# Altium schematic symbol library my symbol schematics library.SchLib: 13 symbols
Pins are listed as number, name and electrical type; pins without a type are passive.

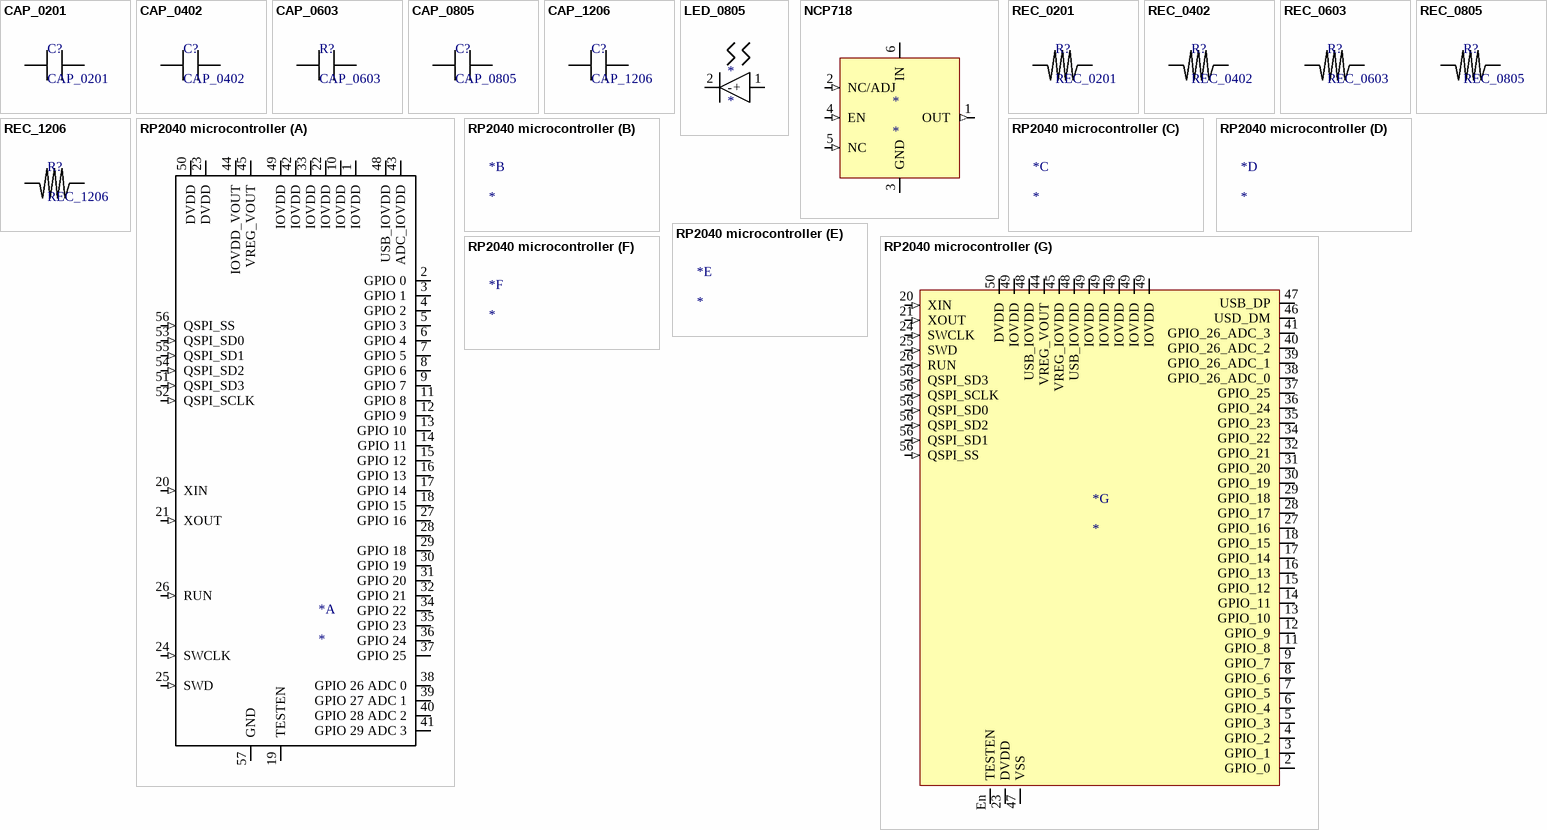
[diagram p0: symbols CAP_0201 to RP2040 microcontroller]

## CAP_0201
designator C?
footprint CAP_0201 (Chip Capacitor, 2-Leads, Body 0,60x0,30mm, IPC Medium Density)
pins: 7, 8

## CAP_0402
designator C?
footprint CAP_0402 (Chip Capacitor, 2-Leads, Body 1,00x0,50mm, IPC Medium Density)
pins: 7, 8

## CAP_0603
designator R?
footprint CAP_0603 (Chip Capacitor, 2-Leads, Body 1,60x0,80mm, IPC Medium Density)
pins: 7, 8

## CAP_0805
designator C?
footprint CAP_0805 (Chip Capacitor, 2-Leads, Body 2,00x1,25mm, IPC Medium Density)
pins: 7, 8

## CAP_1206
designator C?
footprint CAP_1206 (Chip Capacitor, 2-Leads, Body 3,20x1,60mm, IPC Medium Density)
pins: 7, 8

## LED_0805
designator *
pins: 1 +, 2 -

## NCP718
designator *
footprint NCP718 (PSON, 6-Leads, Body 2,30x1,70mm, Pitch 0,65mm, Thermal Pad 1,60x0,43mm, IPC Medium Density)
pins: 1 OUT (out), 2 NC/ADJ (in), 3 GND (power), 4 EN (in), 5 NC (in), 6 IN (power)

## REC_0201
designator R?
footprint PCBComponent_1
footprint REC_0201 (Chip Resistor, 2-Leads, Body 0,60x0,30mm, IPC Medium Density)
pins: 1, 2

## REC_0402
designator R?
footprint REC_0402 (Chip Resistor, 2-Leads, Body 1,00x0,50mm, IPC Medium Density)
pins: 1, 2

## REC_0603
designator R?
footprint REC_0603 (Chip Resistor, 2-Leads, Body 1,10x0,80mm, IPC Medium Density)
pins: 1, 2

## REC_0805
designator R?
footprint REC_0805 (Chip Resistor, 2-Leads, Body 2,00x1,25mm, IPC Medium Density)
pins: 1, 2

## REC_1206
designator R?
footprint REC_1206 (Chip Resistor, 2-Leads, Body 3,10x1,60mm, IPC Medium Density)
pins: 1, 2

## RP2040 microcontroller
designator *
footprint RP2040 Raspberry PI (PQFN, 56-Leads, Body 7,75x7,75mm, Pitch 0,40mm, Thermal Pad 3,10x3,10mm, IPC Medium Density)
part A pins: 1 IOVDD (power), 2 GPIO 0 (io), 3 GPIO 1 (io), 4 GPIO 2 (io), 5 GPIO 3 (io), 6 GPIO 4 (io), 7 GPIO 5 (io), 8 GPIO 6 (io), 9 GPIO 7 (io), 10 IOVDD (power), 11 GPIO 8 (io), 12 GPIO 9 (io), 13 GPIO 10 (io), 14 GPIO 11 (io), 15 GPIO 12 (io), 16 GPIO 13 (io), 17 GPIO 14 (io), 18 GPIO 15 (io), 19 TESTEN (power), 20 XIN (in) "Xin", 21 XOUT (in) "Xout", 22 IOVDD (power), 23 DVDD (power), 24 SWCLK (in), 25 SWD (in), 26 RUN (in) "Run", 27 GPIO 16 (io), 28 GPIO 17 (io), 29 GPIO 18 (io), 30 GPIO 19 (io), 31 GPIO 20 (io), 32 GPIO 21 (io), 33 IOVDD (power), 34 GPIO 22 (io), 35 GPIO 23 (io), 36 GPIO 24 (io), 37 GPIO 25 (io), 38 GPIO 26 ADC 0 (io) "GPIO 26", 39 GPIO 27 ADC 1 (io) "GPIO 27", 40 GPIO 28 ADC 2 (io) "GPIO 28", 41 GPIO 29 ADC 3 (io) "GPIO 29", 42 IOVDD (power), 43 ADC_IOVDD (power), 44 IOVDD_VOUT (power) "VREG_VOUT", 45 VREG_VOUT (power), 48 USB_IOVDD (power), 49 IOVDD (power), 50 DVDD (power), 51 QSPI_SD3 (in), 52 QSPI_SCLK (in), 53 QSPI_SD0 (in), 54 QSPI_SD2 (in), 55 QSPI_SD1 (in), 56 QSPI_SS (in), 57 GND (power)
part G pins: 2 GPIO_0 (io), 3 GPIO_1 (io), 4 GPIO_2 (io), 5 GPIO_3 (io), 6 GPIO_4 (io), 7 GPIO_5 (io), 8 GPIO_6 (io), 9 GPIO_7 (io), 11 GPIO_8 (io), 12 GPIO_9 (io), 13 GPIO_10 (io), 14 GPIO_11 (io), 15 GPIO_12 (io), 16 GPIO_13 (io), 17 GPIO_14 (io), 18 GPIO_15 (io), 20 XIN (in), 21 XOUT (in), 23 DVDD (power), 24 SWCLK (in), 25 SWD (in), 26 RUN (in), 27 GPIO_16 (io), 28 GPIO_17 (io), 29 GPIO_18 (io), 30 GPIO_19 (io), 31 GPIO_20 (io), 32 GPIO_21 (io), 34 GPIO_22 (io), 35 GPIO_23 (io), 36 GPIO_24 (io), 37 GPIO_25 (io), 38 GPIO_26_ADC_0 (io), 39 GPIO_26_ADC_1 (io), 40 GPIO_26_ADC_2 (io), 41 GPIO_26_ADC_3 (io), 44 VREG_VOUT (power), 45 VREG_IOVDD (power), 46 USD_DM (io), 47 USB_DP (io) "USD_DP", 47 VSS (power), 48 USB_IOVDD (power), 48 USB_IOVDD (power), 49 IOVDD (power) "IOCDD", 49 IOVDD (power) "IOCDD", 49 IOVDD (power) "IOCDD", 49 IOVDD (power) "IOCDD", 49 IOVDD (power) "IOCDD", 49 IOVDD (power) "IOCDD", 50 DVDD (power), 56 QSPI_SD3 (in) "QSPI_SD0", 56 QSPI_SCLK (in), 56 QSPI_SD0 (in), 56 QSPI_SD2 (in), 56 QSPI_SD1 (in), 56 QSPI_SS (in), En TESTEN (power)